# Altium integrated library Allegro Power Mgt Voltage Regulator.IntLib: 3 symbols
Pins are listed as number, name and electrical type; pins without a type are passive.

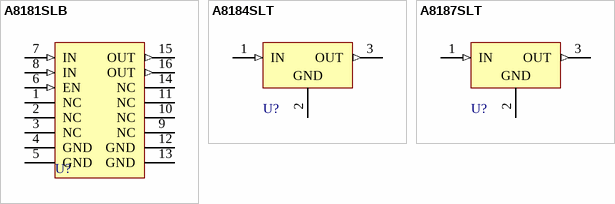
[diagram p0: symbols A8181SLB to A8187SLT]

## A8181SLB
designator U?
Low-Dropout, 5 V Regulator; Note: Pins (4,5) and (12,13) exist as TABS; all are internally connected (GND).; ComponentAvailability: Obsolete; Published: 13-Oct-2000; LatestRevisionDate: 13-Apr-2006; LatestRevisionNote: IPC-7351 Footprint Added.; DatasheetVersion: 1995; PackageReference: LB16; Publisher: Altium Limited; PackageDescription: 16-Pin Small Outline Integrated Circuit 1.27 mm Pitch; Code_JEDEC: MS-013-AA; Code_IPC: SOIC127P1030-16; ComponentLink1Description: Manufacturer Link; ComponentLink1URL: http://www.allegromicro.com/; ComponentLink2Description: Datasheet; ComponentLink2URL: http://www.allegromicro.com/datafile/archive/8181.pdf
footprint LB16_N (SOIC, 16-Leads, Body 10.3x7.5mm, Pitch 1.27mm, IPC Medium Density)
footprint LB16_L (SOIC, 16-Leads, Body 10.3x7.5mm, Pitch 1.27mm, IPC High Density)
footprint LB16_M (SOIC, 16-Leads, Body 10.3x7.5mm, Pitch 1.27mm, IPC Low Density)
3D model LB16 (16-Pin Small Outline Integrated Circuit 1.27 mm Pitch)
pins: 1 NC, 2 NC, 3 NC, 4 GND (power), 5 GND (power), 6 EN (in), 7 IN (in), 8 IN (in), 9 NC, 10 NC, 11 NC, 12 GND (power), 13 GND (power), 14 NC, 15 OUT (out), 16 OUT (out)

## A8184SLT
designator U?
Low-Dropout, 3 V Regulator; Note: TAB is connected to GND (pin 2).; ComponentAvailability: Obsolete; Published: 13-Oct-2000; LatestRevisionDate: 17-Jul-2002; LatestRevisionNote: Re-released for DXP Platform.; DatasheetVersion: 1995; PackageVersion: 1995; PackageReference: LT3; Publisher: Altium Limited; PackageDescription: SOT-89; Body 4.6 x 4.25 mm, inc. leads (LxW max); Code_JEDEC: TO-243-AA; Code_IPC: SOT 89; ComponentLink1Description: Manufacturer Link; ComponentLink1URL: http://www.allegromicro.com/; ComponentLink2Description: Datasheet; ComponentLink2URL: http://www.allegromicro.com/datafile/archive/8184.pdf
footprint LT3 (SOT-89; Body 4.6 x 4.25 mm, inc. leads (LxW max))
pins: 1 IN (in), 2 GND (power), 3 OUT (out)

## A8187SLT
designator U?
Low-Dropout, 3.3 V Regulator; Note: TAB is connected to GND (pin 2).; ComponentAvailability: Obsolete; Published: 13-Oct-2000; LatestRevisionDate: 17-Jul-2002; LatestRevisionNote: Re-released for DXP Platform.; DatasheetVersion: 1995; PackageVersion: 1995; PackageReference: LT3; Publisher: Altium Limited; PackageDescription: SOT-89; Body 4.6 x 4.25 mm, inc. leads (LxW max); Code_JEDEC: TO-243-AA; Code_IPC: SOT 89; ComponentLink1Description: Manufacturer Link; ComponentLink1URL: http://www.allegromicro.com/; ComponentLink2Description: Datasheet; ComponentLink2URL: http://www.allegromicro.com/datafile/archive/8187.pdf
footprint LT3 (SOT-89; Body 4.6 x 4.25 mm, inc. leads (LxW max))
pins: 1 IN (in), 2 GND (power), 3 OUT (out)